# Altium footprint library PcbLib1.PcbLib: 2 footprints
Each footprint in its own frame and in the unit in brackets; x right, y up, seen from the top. Pads: shape width x height; smd on the part's side, far side on the other; paste and mask are expansions set on the pad; w line width, h text height; cw(c..) or ccw(c..) is an arc to the next point about the centre after c.
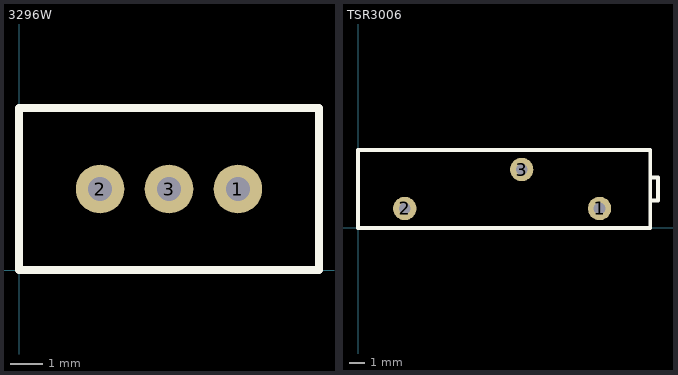
[diagram p0: the footprints below, top view; thin cyan lines are the x and y axes]

## 3296W [mil]
pads (3):
  round 60 hole 30: 1(270,100) 2(100,100) 3(185,100)
Top Overlay:
  lines w10: 0,196.85 0,0 370,0 370,200 0,200

## TSR3006 [mil]
height 250
pads (3):
  round 60 hole 30: 1(620,50) 2(120,50) 3(420,150)
Top Overlay:
  lines w10: 750,70 770,70 770,80 770,130 750,130 ; 0,0 0,200 750,200 750,0 0,0